# Altium footprint library ECASD6.PcbLib: 1 footprints
Each footprint in its own frame and in the unit in brackets; x right, y up, seen from the top. Pads: shape width x height; smd on the part's side, far side on the other; paste and mask are expansions set on the pad; w line width, h text height; cw(c..) or ccw(c..) is an arc to the next point about the centre after c.
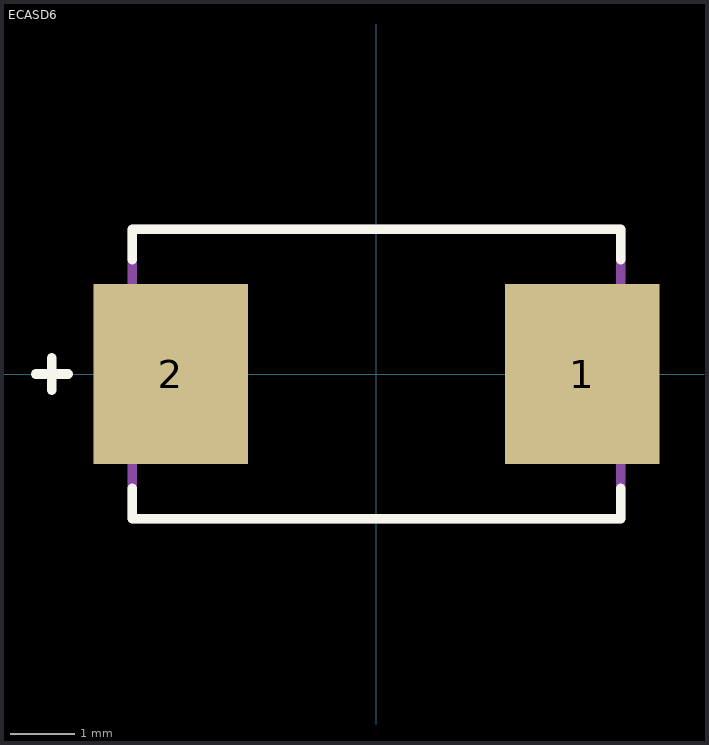
[diagram p0: the footprint, top view; thin cyan lines are the x and y axes]

## ECASD6 [mm]
pads (2):
  rect 2.4x2.8 smd: 1(3.2,0) 2(-3.2,0)
Top Overlay:
  lines w0.15: -5.3,0 -4.8,0 ; -5.05,-0.25 -5.05,0.25 ; -3.8,-1.775 -3.8,-2.25 3.8,-2.25 3.8,-1.775 ; -3.8,1.775 -3.8,2.25 3.8,2.25 3.8,1.775
Mechanical 13:
  lines w0.15: -3.8,-2.25 3.8,-2.25 3.8,2.25 -3.8,2.25 -3.8,-2.25
3D body "step_temp.STEP": height 3.1, standoff 0, extent -3.65,-2.15 3.65,2.15